# EAGLE library part ESP8266-12 (library FansElectronics-Modul)
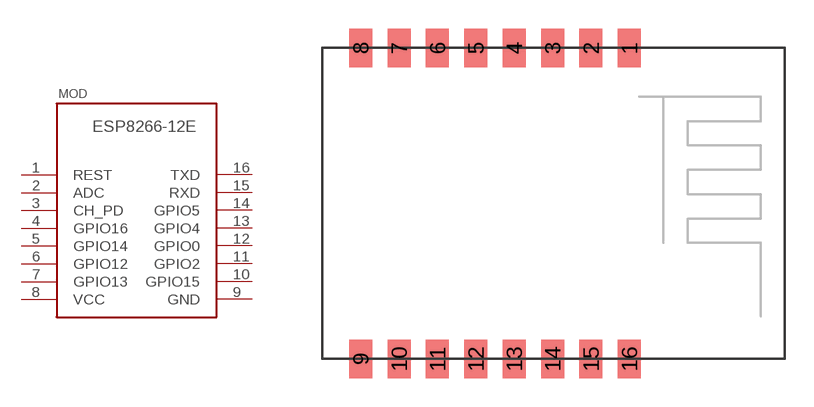
[diagram p4: symbol with the pads of ESP8266-12; footprint ESP8266-12]

Designator prefix MOD

## ESP8266-12  [ESP8266-12]
1  REST
2  ADC
3  CH_PD
4  GPIO16
5  GPIO14
6  GPIO12
7  GPIO13
8  VCC
9  GND
10  GPIO15
11  GPIO2
12  GPIO0
13  GPIO4
14  GPIO5
15  RXD
16  TXD

## Footprint ESP8266-12 (pad centres in mm)
smd 1.2 x 2: 1 4.57,7.62; 2 2.57,7.62; 3 0.57,7.62; 4 -1.43,7.62; 5 -3.43,7.62; 6 -5.43,7.62; 7 -7.43,7.62; 8 -9.43,7.62; 9 -9.43,-8.58; 10 -7.43,-8.58; 11 -5.43,-8.58; 12 -3.43,-8.58; 13 -1.43,-8.58; 14 0.57,-8.58; 15 2.57,-8.58; 16 4.57,-8.58